# Altium integrated library J-Link ARM OB.IntLib: 17 symbols
Pins are listed as number, name and electrical type; pins without a type are passive.

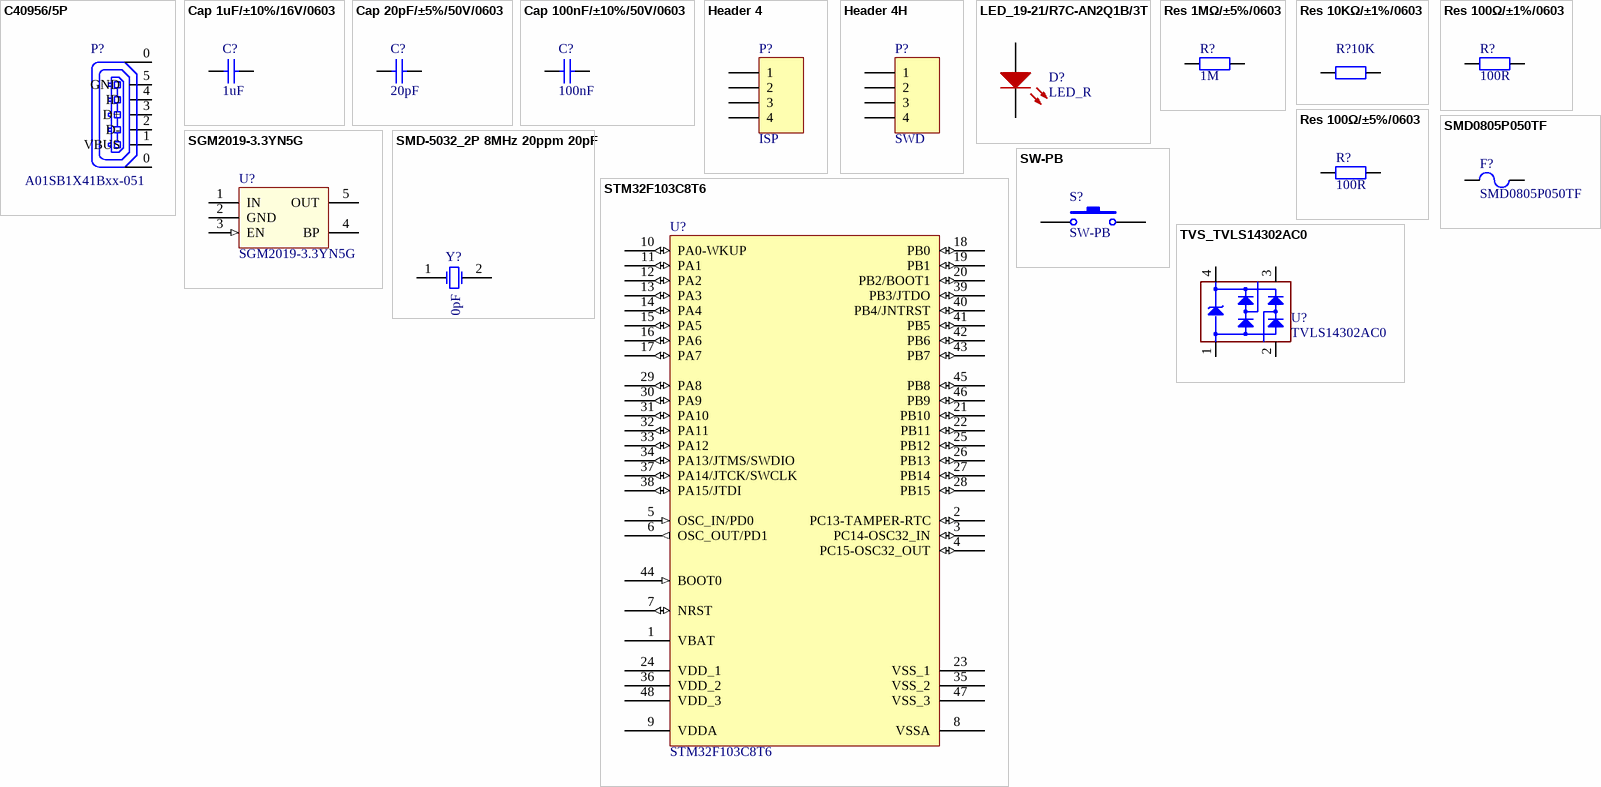
[diagram p0: symbols C40956/5P to TVS_TVLS14302AC0]

## C40956/5P
designator P?, comment A01SB1X41Bxx-051
Micro USB, 7-Pin SMT-Micro-B, no Flange, Pitch 10.25mm; Manufacturer: XinNanTian; Configuration: Single; Packing: Tape and Reel; Marking: null; DatasheetVersion: Rev.*, 05/2012; PackageVersion: Rev. *,05 /2012; PackageReference: SMT-Micro-B-Mid-Mount; PackageDescription: 7-Pin SMT-Micro-B, Body 10.5 x 6.25 mm; RoHS: TRUE; Mounting Technology: Surface Mount; PartNumber: A01SB1X41Bxx-051; ComponentLink1Description: Manufacturer URL; ComponentLink1URL: http://www.sznantian.com; ComponentLink2Description: Datasheet; ComponentLink2URL: http://www.sznantian.com/sznantian/UploadFiles/201598202853930.pdf; ComponentLink3Description: Package Specification; ComponentLink3URL: null; Value: A01SB1X41Bxx-051; OperatingTemperature: -30~+80 °C; StorageTemperature: NULL °C
footprint A01SB1X41Bxx-051 (5-Pin SMT-Micro-B, Mid-Mount, Body 10.5 x 6.25 mm)
pins: 0 PAD (power), 0 PAD (power), 1 VBUS (power), 2 D-, 3 D+, 4 ID, 5 GND (power)

## Cap 1uF/±10%/16V/0603
designator C?, comment 1uF
0603, X5R, 1uF, ±10%, 16V, CL; PartNumber: CL10A105KO8NNNC; Manufacturer: Samsung; Packing: Tape and Reel; CaseSize(inch): 0603; OperationTemperatureRange: -55~+85 °C; ComponentLink2URL: http://www.samsungsem.com/global/support/library/product-catalog/__icsFiles/afieldfile/2014/11/13/MLCC.pdf; ComponentLink1Description: Manufacturer URL; ComponentLink1URL: http://www.samsungsem.com/; ComponentLink2Description: Datasheet; ComponentLink3Description: Package Specification; ComponentLink3URL: null; Mounting Technology: Surface Mount; PackageDescription: 2-Pin , Body 1.6 x 0.8 x 0.8 mm; PackageVersion: 25-Dec-2014; RoHS: TRUE; Series: CL; Voltage: 16 V; CapacitanceChange: ±10%; Dielectric: X5R; Supplier 1: Digi-Key; Supplier Part Number 1: 1276-1034-2-ND; Value: 1uF
signal-integrity model Cap (Model Description)
simulation model CAP (Model Description)
footprint CAP0603 (Chip Capacitor, Body 1.6x0.8mm, IPC High Density)
pins: 1, 2

## Cap 20pF/±5%/50V/0603
designator C?, comment 20pF
0603, C0G, 20pF, ±5%, 50V, CL; PartNumber: CL10C200JB8NNNC; Manufacturer: Samsung; Packing: Tape and Reel; CaseSize(inch): 0603; OperationTemperatureRange: -55~+125 °C; ComponentLink2URL: http://www.samsungsem.com/global/support/library/product-catalog/__icsFiles/afieldfile/2014/11/13/MLCC.pdf; ComponentLink1Description: Manufacturer URL; ComponentLink1URL: http://www.samsungsem.com/; ComponentLink2Description: Datasheet; ComponentLink3Description: Package Specification; ComponentLink3URL: null; Mounting Technology: Surface Mount; PackageDescription: 2-Pin , Body 1.6 x 0.8 x 0.8 mm; PackageVersion: 25-Dec-2014; RoHS: TRUE; Series: CL; Voltage: 50 V; CapacitanceChange: ±5%; Dielectric: C0G; Value: 20pF
signal-integrity model Cap (Model Description)
simulation model CAP (Model Description)
footprint CAP0603 (Chip Capacitor, Body 1.6x0.8mm, IPC High Density)
pins: 1, 2

## Cap 100nF/±10%/50V/0603
designator C?, comment 100nF
0603, X7R, 100nF, ±10%, 50V, CL; PartNumber: CL10B104KB8NNNC; Manufacturer: Samsung; Packing: Tape and Reel; CaseSize(inch): 0603; OperationTemperatureRange: -55~+125 °C; ComponentLink2URL: http://www.samsungsem.com/global/support/library/product-catalog/__icsFiles/afieldfile/2014/11/13/MLCC.pdf; ComponentLink1Description: Manufacturer URL; ComponentLink1URL: http://www.samsungsem.com/; ComponentLink2Description: Datasheet; ComponentLink3Description: Package Specification; ComponentLink3URL: null; Mounting Technology: Surface Mount; PackageDescription: 2-Pin , Body 1.6 x 0.8 x 0.8 mm; PackageVersion: 25-Dec-2014; RoHS: TRUE; Series: CL; Voltage: 50 V; CapacitanceChange: ±10%; Dielectric: X7R; Supplier 1: Digi-Key; Supplier Part Number 1: 1276-1000-2-ND; Value: 100nF
signal-integrity model Cap (Model Description)
simulation model CAP (Model Description)
footprint CAP0603 (Chip Capacitor, Body 1.6x0.8mm, IPC High Density)
pins: 1, 2

## Header 4
designator P?, comment ISP
Header, 4-Pin; LatestRevisionDate: 17-Jul-2002; LatestRevisionNote: Re-released for DXP Platform.; Publisher: Altium Limited
footprint HDR1X4 (Connector; Header; 4 Position)
signal-integrity model Connector
pins: 1, 2, 3, 4

## Header 4H
designator P?, comment SWD
Header, 4-Pin, Right Angle; LatestRevisionDate: 17-Jul-2002; LatestRevisionNote: Re-released for DXP Platform.; Publisher: Altium Limited
footprint HDR1X4H (Connector; Header; 4 Position; Right Angle)
signal-integrity model Connector
pins: 1, 2, 3, 4

## LED_19-21/R7C-AN2Q1B/3T
designator D?, comment LED_R
SMD0603 LED, 2-Pin 19-21, Pb-Free, Tape and Reel; Manufacturer: Everlight; PartNumber: 19-21/R7C-AN2Q1B/3T; Configuration: Single; Reverse Voltage Vr (V): 5; Forward Current If (mA): 25; Color: DeepRed; fD(nm): 631; DatasheetVersion: Rev.4, 11/2016; PackageVersion: Rev.*, **/****; PackageReference: 22-23C; PackageDescription: 2-Pin 19-21, Body 1.6 x 0.8 mm; Packing: Tape and Reel; RoHS: TRUE; Mounting Technology: Surface Mount; ComponentLink1Description: Manufacturer URL; ComponentLink1URL: http://www.everlight.com; ComponentLink2Description: Datasheet; ComponentLink2URL: http://www.everlight.com/file/ProductFile/DSE-0002640-19-21-R7C-AN2Q1B-3T-V4.pdf; ComponentLink3Description: Package Specification; ComponentLink3URL: null; Value: LED_R; Storage Temperature (°C): -40~+90; Operating Temperature (°C): -40~+85
footprint 19-21 (Everlight SMD0603 LED, Body 1.6 x 0.8 mm)
pins: 1 A, 2 K

## Res 1MΩ/±5%/0603
designator R?, comment 1M
1MΩ, ±5%, 0603, RC; PartNumber: RC0603JR-071ML; Manufacturer: Yageo; Packing: Tape and Reel; Power: 1/10 W; CaseSize(inch): 0603; TypicalTCR: 100 ppm/°C; Voltay: 50 V; ComponentLink2URL: http://www.yageo.com/NewPortal/yageodocoutput?fileName=/pdf/R-Chip/PYu-RC_Group_51_RoHS_L_0.pdf; ComponentLink1Description: Manufacturer URL; ComponentLink1URL: http://www.yageo.com/; ComponentLink2Description: Datasheet; ComponentLink3Description: Package Specification; ComponentLink3URL: null; Mounting Technology: Surface Mount; PackageDescription: 2-Pin , Body 1.6 x 0.8 mm; PackageVersion: 25-Dec-2014; RoHS: TRUE; Series: RC; Value: 1M
footprint RES0603 (Chip Resistor, Body 1.6x0.8mm, IPC High Density)
pins: 1, 2

## Res 10KΩ/±1%/0603
designator R?, comment 10K
10KΩ, ±1%, 0603, RC; PartNumber: RC0603FR-0710KL; Manufacturer: Yageo; Packing: Tape and Reel; Power: 1/10 W; CaseSize(inch): 0603; TypicalTCR: 100 ppm/°C; Voltay: 50 V; ComponentLink2URL: http://www.yageo.com/NewPortal/yageodocoutput?fileName=/pdf/R-Chip/PYu-RC_Group_51_RoHS_L_0.pdf; ComponentLink1Description: Manufacturer URL; ComponentLink1URL: http://www.yageo.com/; ComponentLink2Description: Datasheet; ComponentLink3Description: Package Specification; ComponentLink3URL: null; Mounting Technology: Surface Mount; PackageDescription: 2-Pin , Body 1.6 x 0.8 mm; PackageVersion: 25-Dec-2014; RoHS: TRUE; Series: RC; Value: 10K
footprint RES0603 (Chip Resistor, Body 1.6x0.8mm, IPC High Density)
pins: 1, 2

## Res 100Ω/±1%/0603
designator R?, comment 100R
100Ω, ±1%, 0603, RC; PartNumber: RC0603FR-07100RL; Manufacturer: Yageo; Packing: Tape and Reel; Power: 1/10 W; CaseSize(inch): 0603; TypicalTCR: 100 ppm/°C; Voltay: 50 V; ComponentLink2URL: http://www.yageo.com/NewPortal/yageodocoutput?fileName=/pdf/R-Chip/PYu-RC_Group_51_RoHS_L_0.pdf; ComponentLink1Description: Manufacturer URL; ComponentLink1URL: http://www.yageo.com/; ComponentLink2Description: Datasheet; ComponentLink3Description: Package Specification; ComponentLink3URL: null; Mounting Technology: Surface Mount; PackageDescription: 2-Pin , Body 1.6 x 0.8 mm; PackageVersion: 25-Dec-2014; RoHS: TRUE; Series: RC; Value: 100R; Type: General Purpose Chip Resistor
footprint RES0603 (Chip Resistor, Body 1.6x0.8mm, IPC High Density)
pins: 1, 2

## Res 100Ω/±5%/0603
designator R?, comment 100R
100Ω, ±5%, 0603, RC; PartNumber: RC0603JR-07100RL; Manufacturer: Yageo; Packing: Tape and Reel; Power: 1/10 W; CaseSize(inch): 0603; TypicalTCR: 100 ppm/°C; Voltay: 50 V; ComponentLink2URL: http://www.yageo.com/NewPortal/yageodocoutput?fileName=/pdf/R-Chip/PYu-RC_Group_51_RoHS_L_0.pdf; ComponentLink1Description: Manufacturer URL; ComponentLink1URL: http://www.yageo.com/; ComponentLink2Description: Datasheet; ComponentLink3Description: Package Specification; ComponentLink3URL: null; Mounting Technology: Surface Mount; PackageDescription: 2-Pin , Body 1.6 x 0.8 mm; PackageVersion: 25-Dec-2014; RoHS: TRUE; Series: RC; Value: 100R
footprint RES0603 (Chip Resistor, Body 1.6x0.8mm, IPC High Density)
pins: 1, 2

## SGM2019-3.3YN5G
designator U?
Single Output LDO, 300 mA, 3.3V Fixed Out, 2.5 to 5.5 V Input, 5-Pin SOT-23; Manufacturer: SG Micro Corp; PartNumber: SGM2019-3.3YN5G/TR; Accuracy: 2.5%; DynamicVoltageScaling: TRUE; EcoPlan: Green (RoHS & no Sb/Br); IoutMax: 300 mA; IqTyp: 100 μA; SubFamily: Single Channel LDO; VdoTyp: 270 mV; VinMax: 5.5 V; VinMin: 2.5 V; CodeJedec: MO-178-C; PackageMarking: YJ33; DatasheetVersion: Rev.C; PackageVersion: NULL; PackageReference: SOT23-5; PackageDescription: 5-Pin Plastic Small Outline, Body 2.9 x 2.7 mm, 0.95 mm Pitch; VoutTyp: 3.3 V; MountingTechnology: Surface Mount; ComponentLink1Description: Manufacturer URL; ComponentLink1URL: http://www.sg-micro.com/; ComponentLink2Description: Datasheet; ComponentLink2URL: http://www.sg-micro.com/pdf/SGM2019.pdf; ComponentLink3Description: Package Specification; ComponentLink3URL: NULL; Value: SGM2019-3.3YN5G; Type: Linear Regulator (LDO); OperatingTemperature: -40~+85 ℃; StorageTemperature: -65~+150 ℃
footprint SOT23-5_L (SOT23, 5 Pin, Body 2.9 x 2.7mm, Pitch 0.95mm, IPC High Density)
footprint SOT23-5_M (SOT23, 5 Pin, Body 2.9 x 2.7mm, Pitch 0.95mm, IPC High Density)
footprint SOT23-5_N (SOT23, 5 Pin, Body 2.9 x 2.7mm, Pitch 0.95mm, IPC High Density)
pins: 1 IN (power) "Input pin. A small capacitor is needed from this pin to ground to assure stability. Typical input capacitor = 1.0uF. Both input and output capacitor grounds should be tied back to the IC ground with no significant impedance (See Datasheet)", 2 GND (power), 3 EN (in) "Driving the enable pin (EN) over 1.2V turns on the regulator. Driving this pin below 0.4V puts the regulator into shutdown mode, reducing operating current to 18nA typical.", 4 BP "Feedback pin (FB) for adjustable versions", 5 OUT (power) "Regulated output voltage pin. A small 1-uF ceramic capacitor is needed from this pin to ground to assure stability.See Input and Output Capacitor Requirements in the Application Information section for more details."

## SMD0805P050TF
designator F?
Over Current Protection, Resettable Fuses-PPTC, SMD0805 Series, I(hold) 0.05~1.25A; Manufacturer: Shenzhen Ruilongyuan; Accuracy(%): NULL; Eco-Plan: Green (RoHS & no Sb/Br); V(Max)(V): 6; Pd(Typ)(W): 0.5; Type: PPTC; I(Max)(A): 100; DatasheetVersion: NULL; PackageVersion: NULL; PackageReference: 0805; PackageDescription: 0805, Body 2.2 x 1.5 mm; SubFamily: SMD0805 Series; Mounting Technology: Surface Mount; Code_JEDEC: NULL; PartNumber: SMD0805P050TF; ComponentLink1Description: Manufacturer URL; ComponentLink1URL: http://www.ruilon.com; ComponentLink2Description: Datasheet; ComponentLink2URL: http://www.ruilon.com/files/upload/pdfs/0805.pdf; ComponentLink3Description: Package Specification; ComponentLink3URL: NULL; Value: SMD0805P050TF; AmbientTemperature(°C): 25; HoldCurrent (A): 0.5
footprint SMD0805P050TF (PTTC, 0805, Body 2.2x1.5mm)
pins: 1, 2

## SMD-5032_2P 8MHz 20ppm 20pF
designator Y?, comment 8MHz ±20ppm 20pF
贴片晶振; ComponentLink1URL: http://www.szlcsc.com/product/details_117214.html; Package: SMD-5032_2P; Supplier: LC; SuppliersPartNumber: C115962
footprint SMD-5032_2P
pins: 1 OSC1, 2 OSC2

## STM32F103C8T6
designator U?
STM32 ARM-based 32-bit MCU with 64 Kbytes Flash, 48-pin LQFP, Industrial Temperature; Published: 30-May-2008; DatasheetVersion: rev6, Mar-2008; PackageVersion: Mar-2008; PackageReference: LQFP48; Publisher: Altium Limited; PackageDescription: 48-Pin Low-Profile Quad Flat Pack, 7 x 7 mm Body, 0.5 mm Pitch (LQFP48); ComponentLink1Description: Manufacturer Link; ComponentLink1URL: www.st.com/stm32; ComponentLink2Description: Datasheet; ComponentLink2URL: http://www.st.com/stonline/products/literature/ds/13587.pdf
footprint LQFP48_N (Thin QFP, 48-Leads, Body 7x7mm, Pitch 0.5mm, IPC Medium Density)
footprint LQFP48_L (Thin QFP, 48-Leads, Body 7x7mm, Pitch 0.5mm, IPC High Density)
footprint LQFP48_M (Thin QFP, 48-Leads, Body 7x7mm, Pitch 0.5mm, IPC Low Density)
pins: 1 VBAT (power), 2 PC13-TAMPER-RTC (io), 3 PC14-OSC32_IN (io), 4 PC15-OSC32_OUT (io), 5 OSC_IN/PD0 (in), 6 OSC_OUT/PD1 (out), 7 NRST (io), 8 VSSA (power), 9 VDDA (power), 10 PA0-WKUP (io), 11 PA1 (io), 12 PA2 (io), 13 PA3 (io), 14 PA4 (io), 15 PA5 (io), 16 PA6 (io), 17 PA7 (io), 18 PB0 (io), 19 PB1 (io), 20 PB2/BOOT1 (io), 21 PB10 (io), 22 PB11 (io), 23 VSS_1 (power), 24 VDD_1 (power), 25 PB12 (io), 26 PB13 (io), 27 PB14 (io), 28 PB15 (io), 29 PA8 (io), 30 PA9 (io), 31 PA10 (io), 32 PA11 (io), 33 PA12 (io), 34 PA13/JTMS/SWDIO (io), 35 VSS_2 (power), 36 VDD_2 (power), 37 PA14/JTCK/SWCLK (io), 38 PA15/JTDI (io), 39 PB3/JTDO (io), 40 PB4/JNTRST (io), 41 PB5 (io), 42 PB6 (io), 43 PB7 (io), 44 BOOT0 (in), 45 PB8 (io), 46 PB9 (io), 47 VSS_3 (power), 48 VDD_3 (power)

## SW-PB
designator S?
Switch; Published: 24-Mar-1999; LatestRevisionDate: 17-Jul-2002; LatestRevisionNote: Re-released for DXP Platform.; PackageReference: SPST-2; Publisher: Altium Limited; PackageDescription: Switch; 2 Leads
footprint SW-SKRK-SKRKAEE010 (ALPS SW-SKRK-SKRKAEE010 3.9x2.9mm)
pins: 1, 2

## TVS_TVLS14302AC0
designator U?, comment TVLS14302AC0
Multi-Line TVS Array, 4-Pin SOT-143-4L, Pb-Free, Tape and Reel; Manufacturer: INPAQ; Configuration: Three; Peak Pulse Power (W): 150; Marking: C06; Vrwm Max (V): 5; Vbr Min (V): 6; DatasheetVersion: Rev.A9, **/****; PackageVersion: Rev. *, null; PackageReference: SOT-143-4L; PackageDescription: 4-Pin SOT-143-4L, Body 3.0 x 2.55 mm; Packing: Tape and Reel; RoHS: TRUE; Mounting Technology: Surface Mount; PartNumber: TVLS14302AC0; ComponentLink1Description: Manufacturer URL; ComponentLink1URL: http://www.inpaq.com.tw; ComponentLink2Description: Datasheet; ComponentLink2URL: http://www.inpaq.com.tw/Specification/TVS/INPAQ%20Transient%20Voltage%20Suppressor%20TVL%20S143%2002%20AC0%20Specification_A9%20[SOT143-4L].pdf; ComponentLink3Description: Package Specification; ComponentLink3URL: null; Value: TVLS14302AC0; Operating Temperature (°C): -55-125; Storage Temperature (°C): -55-150
footprint SOT-143-4L (4-Pin SOT-143-4L, Body 3.0 x 2.55 mm)
pins: 1 GND (power), 2 I/O1 (power), 3 I/O2 (power), 4 VDD (power)